# Altium schematic symbol library FQP3P50.SchLib: 1 symbol
Pins are listed as number, name and electrical type; pins without a type are passive.

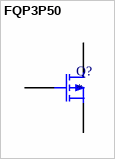
[diagram p0: symbol FQP3P50]

## FQP3P50
designator Q?
pins: 1 G, 2 D, 3 S